# EAGLE library part MS5803 (library miller)
MS5803 Pressure sensor from Measurement Specialties. http://www.meas-spec.com/product/t_product.aspx?id=8684 I2C or SPI communication. Available in 1, 2, 5, 14, and 30 bar models that all use the same footprint.
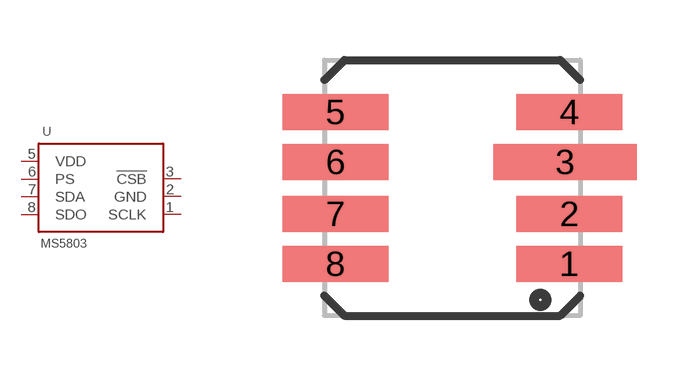
[diagram p0: symbol with the pads of MS5803; footprint MS5803]

Designator prefix U

## MS5803  [MS5803]
1  SCLK
2  GND  pwr
3  !CSB
5  VDD  pwr
6  PS
7  SDA
8  SDO

## Footprint MS5803 (pad centres in mm)
MS5803 Pressure sensor
smd 2.65 x 0.9: 1 2.925,-1.9; 2 2.925,-0.65; 4 2.925,1.9; 5 -2.925,1.9; 6 -2.925,0.65; 7 -2.925,-0.65; 8 -2.925,-1.9
smd 3.58 x 0.9: 3 2.825,0.65